# EAGLE library part CONN_7-1 (library pel_molex)
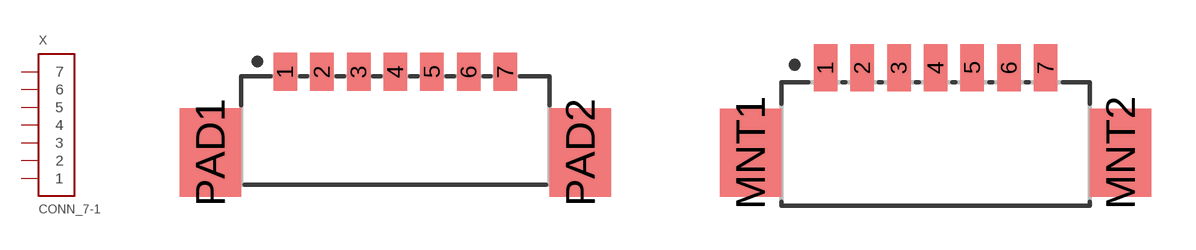
[diagram p9: symbol with the pads of PB-53398-07; footprints PB-53398-07, PB-53261-07]

Designator prefix X

## CONN_7-1-53398  [PB-53398-07]
1  1
2  2
3  3
4  4
5  5
6  6
7  7

## CONN_7-1-53261  [PB-53261-07]
Pads as for PB-53398-07

## CONN_7-1-53047  [PB-53047-07]
Pads as for PB-53398-07

## CONN_7-1-502386  [CM-502386-07]
Pads as for PB-53398-07

## CONN_7-1-502382  [CM-502382-07]
Pads as for PB-53398-07

## Footprint PB-53398-07 (pad centres in mm)
smd 0.8 x 1.3: 1 -3.75,1.25; 2 -2.5,1.25; 3 -1.25,1.25; 4 0,1.25; 5 1.25,1.25; 6 2.5,1.25; 7 3.75,1.25
smd 2.1 x 3: PAD1 -6.3,-1.5; PAD2 6.3,-1.5

## Footprint PB-53261-07 (pad centres in mm)
smd 0.8 x 1.6: 1 -3.75,1.1; 2 -2.5,1.1; 3 -1.25,1.1; 4 0,1.1; 5 1.25,1.1; 6 2.5,1.1; 7 3.75,1.1
smd 2.1 x 3: MNT1 -6.3,-1.8; MNT2 6.3,-1.8

## Footprint PB-53047-07 (pad centres in mm)
drill 0.5: 1 -3.75,0; 2 -2.5,0; 3 -1.25,0; 4 0,0; 5 1.25,0; 6 2.5,0; 7 3.75,0

## Footprint CM-502386-07 (pad centres in mm)
Click Mate Right Angle
smd 0.6 x 1.7: 1 3.75,-4.55; 2 2.5,-4.55; 3 1.25,-4.55; 4 0,-4.55; 5 -1.25,-4.55; 6 -2.5,-4.55; 7 -3.75,-4.55
smd 1 x 2.7: P1 5.6,-1.25; P2 -5.6,-1.25

## Footprint CM-502382-07 (pad centres in mm)
Click Mate Vertical
smd 0.6 x 1.7: 1 3.75,-5.45; 2 2.5,-5.45; 3 1.25,-5.45; 4 0,-5.45; 5 -1.25,-5.45; 6 -2.5,-5.45; 7 -3.75,-5.45
smd 1 x 2.8: P1 5.6,-2.1; P2 -5.6,-2.1